# EAGLE library part M93C46-WDW6TP (library smf2)
EEPORM M93C46 - WDW6TP Hersteller: STMicroelectronics Datenblatt <https://www.mouser.de/datasheet/2/389/cd00001142-1795513.pdf>
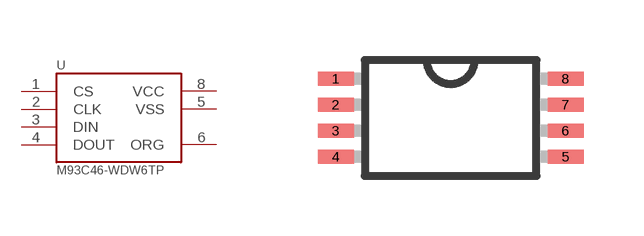
[diagram p1: symbol with the pads of TSSOP-8; footprint TSSOP-8]

Designator prefix -

## M93C46-WDW6TP  [TSSOP-8]
1  CS
2  CLK
3  DIN
4  DOUT
5  VSS
6  ORG
8  VCC

## Footprint TSSOP-8 (pad centres in mm)
8-Lead Thin Shrink Small Outline Package Source: http://www.analog.com/static/imported-files/data_sheets/AD8541_8542_8544.pdf
smd 0.9 x 0.35: 1 -2.875,0.975; 2 -2.875,0.325; 3 -2.875,-0.325; 4 -2.875,-0.975; 5 2.875,-0.975; 6 2.875,-0.325; 7 2.875,0.325; 8 2.875,0.975